# EAGLE library part XR-2943P (library exar)
Fax/Data MICROCONTROLLER
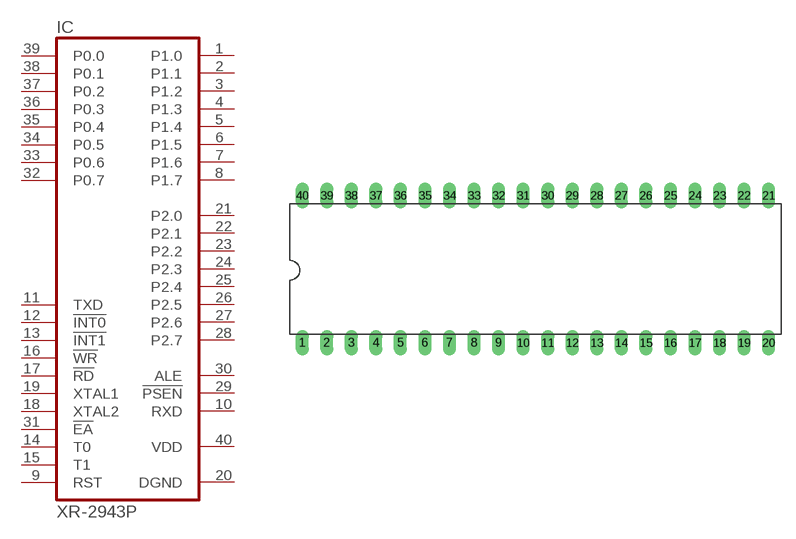
[diagram p67: symbol with the pads of DIL40; footprint DIL40]

Designator prefix IC

## XR-2943P  [DIL40]
1  P1.0
2  P1.1
3  P1.2
4  P1.3
5  P1.4
6  P1.5
7  P1.6
8  P1.7
9  RST  in
10  RXD  out
11  TXD  in
12  !INT0  in
13  !INT1  in
14  T0  in
15  T1  in
16  !WR  in
17  !RD  in
18  XTAL2  in
19  XTAL1  in
20  DGND  pwr
21  P2.0
22  P2.1
23  P2.2
24  P2.3
25  P2.4
26  P2.5
27  P2.6
28  P2.7
29  !PSEN  out
30  ALE  out
31  !EA  in
32  P0.7
33  P0.6
34  P0.5
35  P0.4
36  P0.3
37  P0.2
38  P0.1
39  P0.0
40  VDD  pwr

## Footprint DIL40 (pad centres in mm)
Dual In Line Package
drill 0.813 long: 1 -24.13,-7.62; 2 -21.59,-7.62; 3 -19.05,-7.62; 4 -16.51,-7.62; 5 -13.97,-7.62; 6 -11.43,-7.62; 7 -8.89,-7.62; 8 -6.35,-7.62; 9 -3.81,-7.62; 10 -1.27,-7.62; 11 1.27,-7.62; 12 3.81,-7.62; 13 6.35,-7.62; 14 8.89,-7.62; 15 11.43,-7.62; 16 13.97,-7.62; 17 16.51,-7.62; 18 19.05,-7.62; 19 21.59,-7.62; 20 24.13,-7.62; 21 24.13,7.62; 22 21.59,7.62; 23 19.05,7.62; 24 16.51,7.62; 25 13.97,7.62; 26 11.43,7.62; 27 8.89,7.62; 28 6.35,7.62; 29 3.81,7.62; 30 1.27,7.62; 31 -1.27,7.62; 32 -3.81,7.62; 33 -6.35,7.62; 34 -8.89,7.62; 35 -11.43,7.62; 36 -13.97,7.62; 37 -16.51,7.62; 38 -19.05,7.62; 39 -21.59,7.62; 40 -24.13,7.62